# Altium integrated library Maxim Digital Potentiometers.IntLib: 1045 symbols (part 26 of 42)
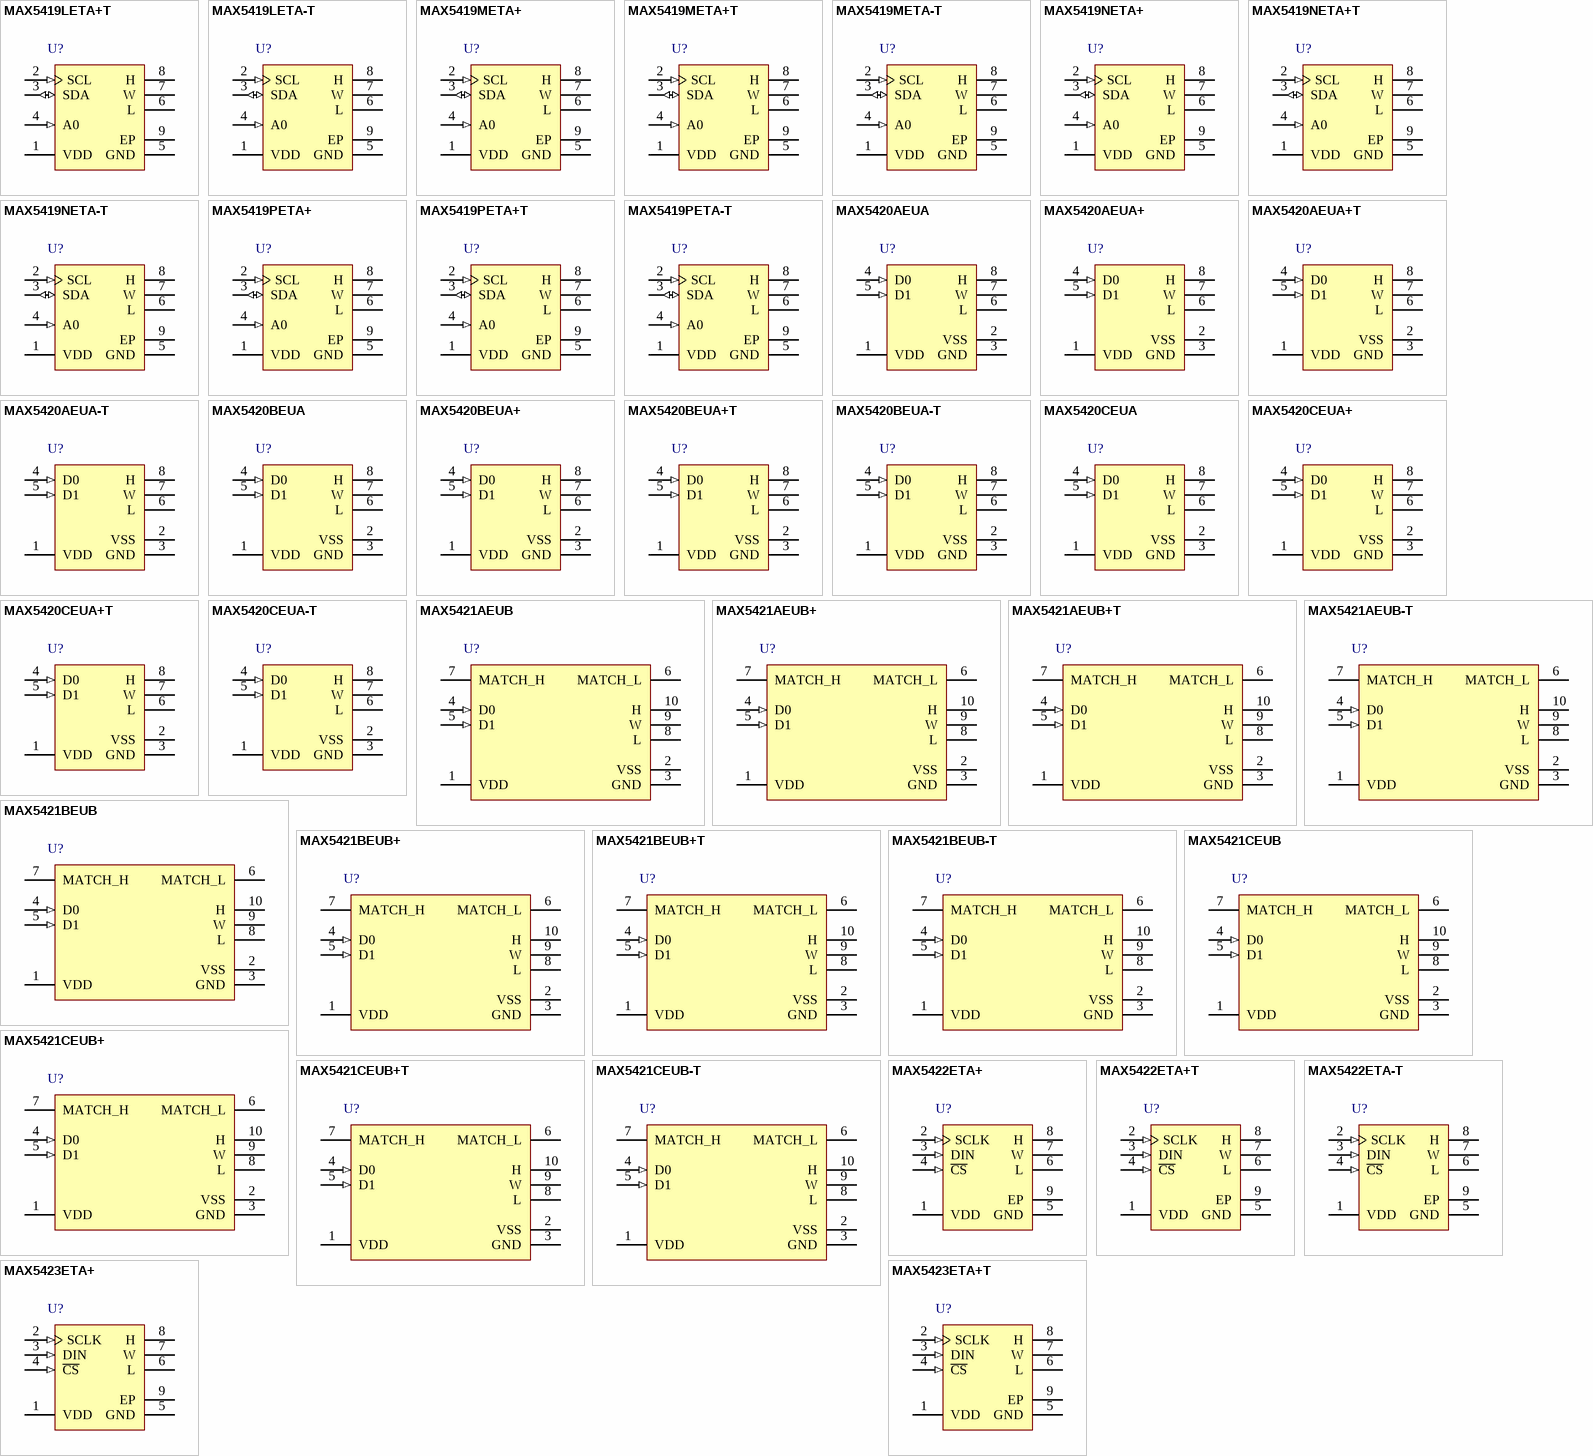
[diagram p54: symbols MAX5419LETA+T to MAX5423ETA+T]

## MAX5422ETA-T
designator U?
50kOhm, Digital Potentiometer with 3-Wire Serial SPI Control Interface, Non-Volatile, Linear Taper, 256 Steps, -40 to 85 degC, 8-pin TDFN-EP (T833-2), Tape and Reel; PartNumber: MAX5422ETA-T; DatasheetVersion: Rev. 0; PackageVersion: Rev. J, 08/2009; PackageReference: T833-2; PackageDescription: 8-Pin Plastic Very Very Thin Dual Flatpack No Leads, Exposed Pad, Body 3 x 3 mm, Pitch 0.65 mm; Supplier 1: Mouser; Supplier Part Number 1: N/A; Control Interface: 3-Wire Serial SPI; Features: EEPROM Wiper Memory; Mounting Technology: Surface Mount; Code_JEDEC: MO229; ComponentLink1Description: Manufacturer URL; ComponentLink1URL: http://www.maximintegrated.com/; ComponentLink2Description: Datasheet; ComponentLink2URL: http://datasheets.maximintegrated.com/en/ds/MAX5422-MAX5424.pdf; ComponentLink3Description: Package Specification; ComponentLink3URL: http://pdfserv.maximintegrated.com/package_dwgs/21-0137.PDF
footprint MAXM-T833-2_V (SON, 8-Leads, Body 3x3mm, Pitch 0.65mm, Thermal Pad 2.3x1.5mm, Recommended)
pins: 1 VDD (power) "Power-Supply Input. Bypass VDD with a 0.1uF capacitor from VDD to GND.", 2 SCLK (in) "Serial-Interface Clock Input", 3 DIN (in) "Serial-Interface Data Input", 4 ~{CS} (in) "Active-Low Digital-Input Chip Select", 5 GND (power) "Ground", 6 L "Low Terminal. The voltage at L can be greater than or less than the voltage at H. Current can flow into or out of L.", 7 W "Wiper Terminal", 8 H "High Terminal. The voltage at H can be greater than or less than the voltage at L. Current can flow into or out of H.", 9 EP "Exposed Pad. The exposed pad is not internally connected. Connect to GND or leave floating."

## MAX5423ETA+
designator U?
100kOhm, Digital Potentiometer with 3-Wire Serial SPI Control Interface, Non-Volatile, Linear Taper, 256 Steps, -40 to 85 degC, 8-pin TDFN-EP (T833+2), Pb-Free; PartNumber: MAX5423ETA+; DatasheetVersion: Rev. 0; PackageVersion: Rev. J, 08/2009; PackageReference: T833+2; PackageDescription: 8-Pin Plastic Very Very Thin Dual Flatpack No Leads, Exposed Pad (T833+2); Supplier 1: Farnell; Supplier Part Number 1: 1714982; Supplier 2: Mouser; Supplier Part Number 2: N/A; Control Interface: 3-Wire Serial SPI; Features: EEPROM Wiper Memory; Mounting Technology: Surface Mount; Code_JEDEC: MO229; ComponentLink1Description: Manufacturer URL; ComponentLink1URL: http://www.maximintegrated.com/; ComponentLink2Description: Datasheet; ComponentLink2URL: http://datasheets.maximintegrated.com/en/ds/MAX5422-MAX5424.pdf; ComponentLink3Description: Package Specification; ComponentLink3URL: http://pdfserv.maximintegrated.com/package_dwgs/21-0137.PDF
footprint MAXM-T833+2_V (SON, 8-Leads, Body 3x3 mm, Pitch 0.65mm, Thermal Pad 2.3x1.5mm)
pins: 1 VDD (power) "Power-Supply Input. Bypass VDD with a 0.1uF capacitor from VDD to GND.", 2 SCLK (in) "Serial-Interface Clock Input", 3 DIN (in) "Serial-Interface Data Input", 4 ~{CS} (in) "Active-Low Digital-Input Chip Select", 5 GND (power) "Ground", 6 L "Low Terminal. The voltage at L can be greater than or less than the voltage at H. Current can flow into or out of L.", 7 W "Wiper Terminal", 8 H "High Terminal. The voltage at H can be greater than or less than the voltage at L. Current can flow into or out of H.", 9 EP "Exposed Pad. The exposed pad is not internally connected. Connect to GND or leave floating."

## MAX5423ETA+T
designator U?
100kOhm, Digital Potentiometer with 3-Wire Serial SPI Control Interface, Non-Volatile, Linear Taper, 256 Steps, -40 to 85 degC, 8-pin TDFN-EP (T833+2), Pb-Free, Tape and Reel; PartNumber: MAX5423ETA+T; DatasheetVersion: Rev. 0; PackageVersion: Rev. J, 08/2009; PackageReference: T833+2; PackageDescription: 8-Pin Plastic Very Very Thin Dual Flatpack No Leads, Exposed Pad (T833+2); Supplier 1: Digi-Key; Supplier Part Number 1: MAX5423ETA+TTR-ND; Supplier 2: Digi-Key; Supplier Part Number 2: MAX5423ETA+TCT-ND; Supplier 3: Digi-Key; Supplier Part Number 3: MAX5423ETA+TDKR-ND; Supplier 4: Mouser; Supplier Part Number 4: 700-MAX5423ETAT; Control Interface: 3-Wire Serial SPI; Features: EEPROM Wiper Memory; Mounting Technology: Surface Mount; Code_JEDEC: MO229; ComponentLink1Description: Manufacturer URL; ComponentLink1URL: http://www.maximintegrated.com/; ComponentLink2Description: Datasheet; ComponentLink2URL: http://datasheets.maximintegrated.com/en/ds/MAX5422-MAX5424.pdf; ComponentLink3Description: Package Specification; ComponentLink3URL: http://pdfserv.maximintegrated.com/package_dwgs/21-0137.PDF
footprint MAXM-T833+2_V (SON, 8-Leads, Body 3x3 mm, Pitch 0.65mm, Thermal Pad 2.3x1.5mm)
pins: 1 VDD (power) "Power-Supply Input. Bypass VDD with a 0.1uF capacitor from VDD to GND.", 2 SCLK (in) "Serial-Interface Clock Input", 3 DIN (in) "Serial-Interface Data Input", 4 ~{CS} (in) "Active-Low Digital-Input Chip Select", 5 GND (power) "Ground", 6 L "Low Terminal. The voltage at L can be greater than or less than the voltage at H. Current can flow into or out of L.", 7 W "Wiper Terminal", 8 H "High Terminal. The voltage at H can be greater than or less than the voltage at L. Current can flow into or out of H.", 9 EP "Exposed Pad. The exposed pad is not internally connected. Connect to GND or leave floating."

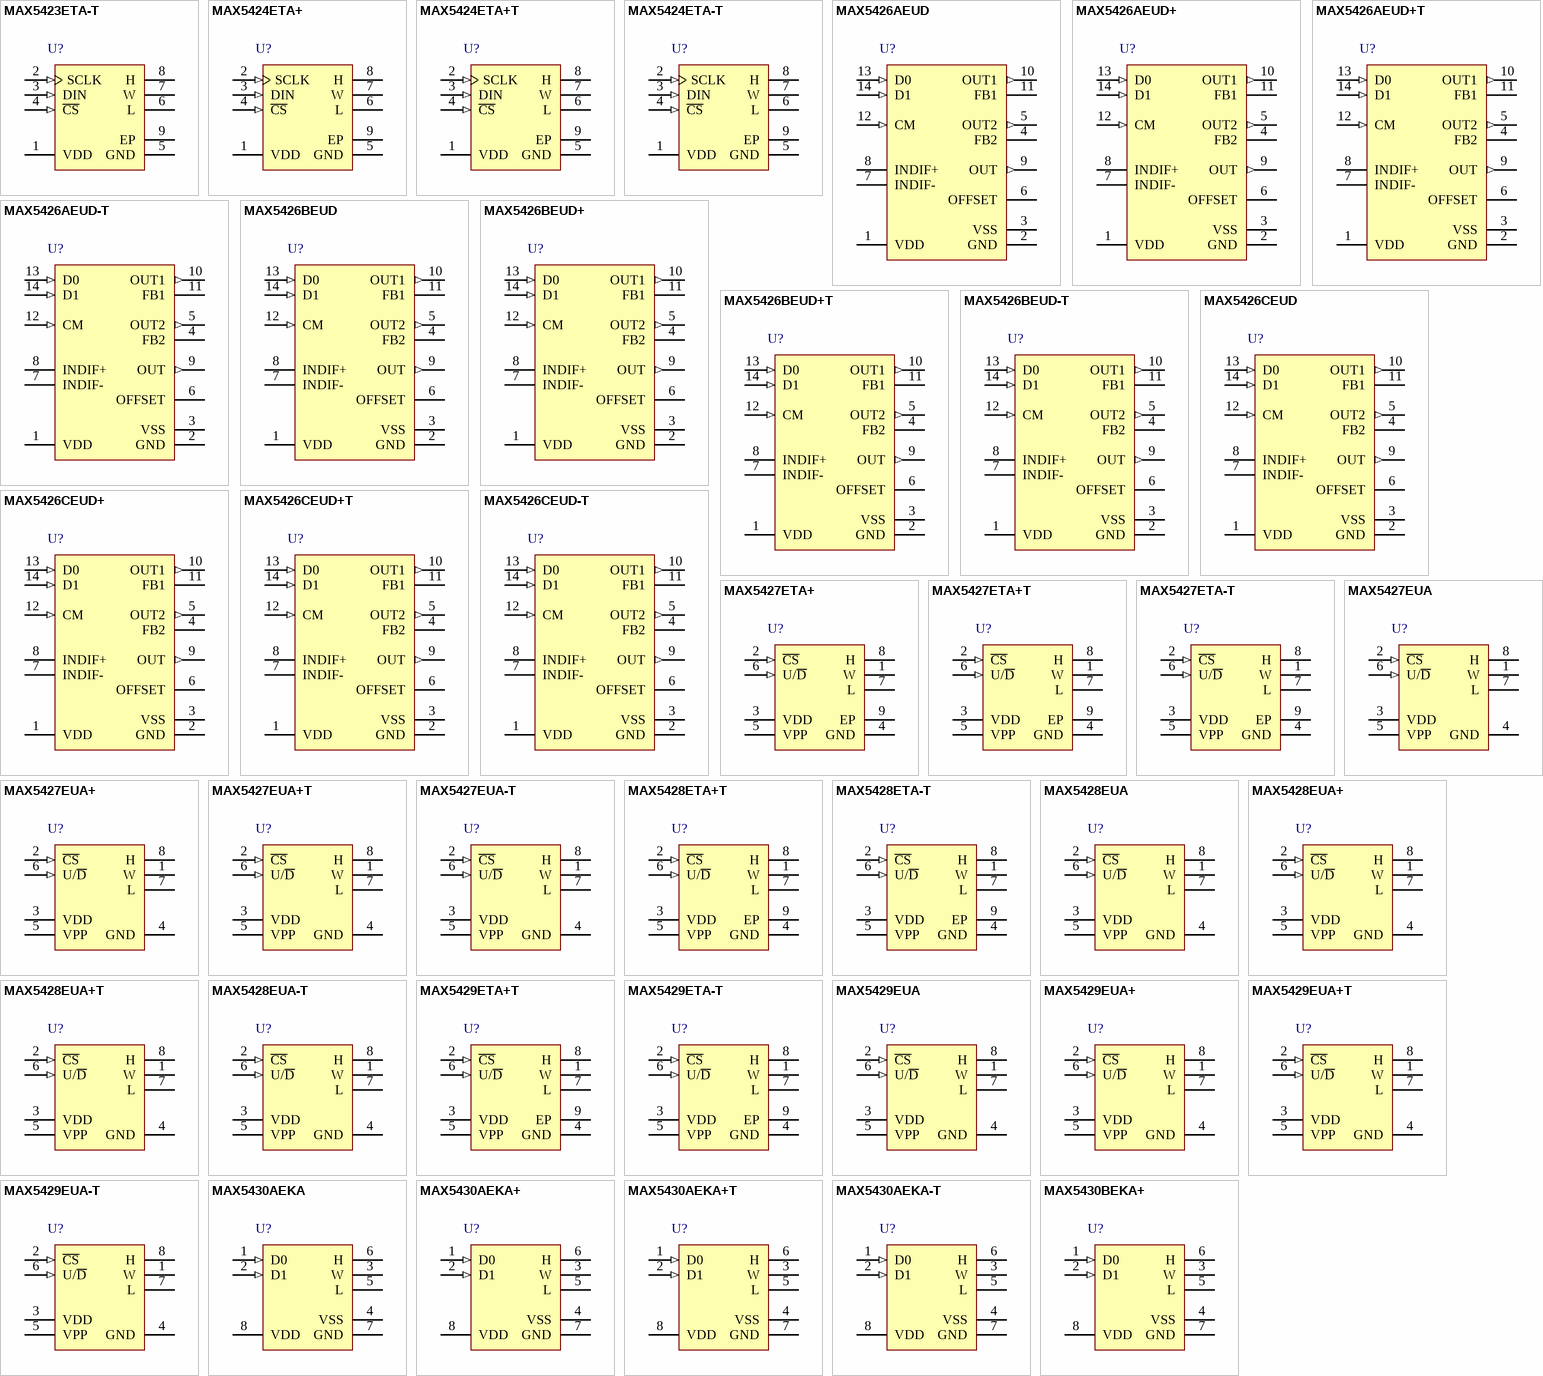
[diagram p18: symbols MAX5423ETA-T to MAX5430BEKA+]

## MAX5423ETA-T
designator U?
100kOhm, Digital Potentiometer with 3-Wire Serial SPI Control Interface, Non-Volatile, Linear Taper, 256 Steps, -40 to 85 degC, 8-pin TDFN-EP (T833-2), Tape and Reel; PartNumber: MAX5423ETA-T; DatasheetVersion: Rev. 0; PackageVersion: Rev. J, 08/2009; PackageReference: T833-2; PackageDescription: 8-Pin Plastic Very Very Thin Dual Flatpack No Leads, Exposed Pad, Body 3 x 3 mm, Pitch 0.65 mm; Supplier 1: Mouser; Supplier Part Number 1: N/A; Control Interface: 3-Wire Serial SPI; Features: EEPROM Wiper Memory; Mounting Technology: Surface Mount; Code_JEDEC: MO229; ComponentLink1Description: Manufacturer URL; ComponentLink1URL: http://www.maximintegrated.com/; ComponentLink2Description: Datasheet; ComponentLink2URL: http://datasheets.maximintegrated.com/en/ds/MAX5422-MAX5424.pdf; ComponentLink3Description: Package Specification; ComponentLink3URL: http://pdfserv.maximintegrated.com/package_dwgs/21-0137.PDF
footprint MAXM-T833-2_V (SON, 8-Leads, Body 3x3mm, Pitch 0.65mm, Thermal Pad 2.3x1.5mm, Recommended)
pins: 1 VDD (power) "Power-Supply Input. Bypass VDD with a 0.1uF capacitor from VDD to GND.", 2 SCLK (in) "Serial-Interface Clock Input", 3 DIN (in) "Serial-Interface Data Input", 4 ~{CS} (in) "Active-Low Digital-Input Chip Select", 5 GND (power) "Ground", 6 L "Low Terminal. The voltage at L can be greater than or less than the voltage at H. Current can flow into or out of L.", 7 W "Wiper Terminal", 8 H "High Terminal. The voltage at H can be greater than or less than the voltage at L. Current can flow into or out of H.", 9 EP "Exposed Pad. The exposed pad is not internally connected. Connect to GND or leave floating."

## MAX5424ETA+
designator U?
200kOhm, Digital Potentiometer with 3-Wire Serial SPI Control Interface, Non-Volatile, Linear Taper, 256 Steps, -40 to 85 degC, 8-pin TDFN-EP (T833+2), Pb-Free; PartNumber: MAX5424ETA+; DatasheetVersion: Rev. 0; PackageVersion: Rev. J, 08/2009; PackageReference: T833+2; PackageDescription: 8-Pin Plastic Very Very Thin Dual Flatpack No Leads, Exposed Pad (T833+2); Supplier 1: Mouser; Supplier Part Number 1: N/A; Control Interface: 3-Wire Serial SPI; Features: EEPROM Wiper Memory; Mounting Technology: Surface Mount; Code_JEDEC: MO229; ComponentLink1Description: Manufacturer URL; ComponentLink1URL: http://www.maximintegrated.com/; ComponentLink2Description: Datasheet; ComponentLink2URL: http://datasheets.maximintegrated.com/en/ds/MAX5422-MAX5424.pdf; ComponentLink3Description: Package Specification; ComponentLink3URL: http://pdfserv.maximintegrated.com/package_dwgs/21-0137.PDF
footprint MAXM-T833+2_V (SON, 8-Leads, Body 3x3 mm, Pitch 0.65mm, Thermal Pad 2.3x1.5mm)
pins: 1 VDD (power) "Power-Supply Input. Bypass VDD with a 0.1uF capacitor from VDD to GND.", 2 SCLK (in) "Serial-Interface Clock Input", 3 DIN (in) "Serial-Interface Data Input", 4 ~{CS} (in) "Active-Low Digital-Input Chip Select", 5 GND (power) "Ground", 6 L "Low Terminal. The voltage at L can be greater than or less than the voltage at H. Current can flow into or out of L.", 7 W "Wiper Terminal", 8 H "High Terminal. The voltage at H can be greater than or less than the voltage at L. Current can flow into or out of H.", 9 EP "Exposed Pad. The exposed pad is not internally connected. Connect to GND or leave floating."

## MAX5424ETA+T
designator U?
200kOhm, Digital Potentiometer with 3-Wire Serial SPI Control Interface, Non-Volatile, Linear Taper, 256 Steps, -40 to 85 degC, 8-pin TDFN-EP (T833+2), Pb-Free, Tape and Reel; PartNumber: MAX5424ETA+T; DatasheetVersion: Rev. 0; PackageVersion: Rev. J, 08/2009; PackageReference: T833+2; PackageDescription: 8-Pin Plastic Very Very Thin Dual Flatpack No Leads, Exposed Pad (T833+2); Supplier 1: Digi-Key; Supplier Part Number 1: MAX5424ETA+TTR-ND; Supplier 2: Digi-Key; Supplier Part Number 2: MAX5424ETA+TCT-ND; Supplier 3: Digi-Key; Supplier Part Number 3: MAX5424ETA+TDKR-ND; Supplier 4: Farnell; Supplier Part Number 4: 1714984; Supplier 5: Mouser; Supplier Part Number 5: 700-MAX5424ETAT; Control Interface: 3-Wire Serial SPI; Features: EEPROM Wiper Memory; Mounting Technology: Surface Mount; Code_JEDEC: MO229; ComponentLink1Description: Manufacturer URL; ComponentLink1URL: http://www.maximintegrated.com/; ComponentLink2Description: Datasheet; ComponentLink2URL: http://datasheets.maximintegrated.com/en/ds/MAX5422-MAX5424.pdf; ComponentLink3Description: Package Specification; ComponentLink3URL: http://pdfserv.maximintegrated.com/package_dwgs/21-0137.PDF
footprint MAXM-T833+2_V (SON, 8-Leads, Body 3x3 mm, Pitch 0.65mm, Thermal Pad 2.3x1.5mm)
pins: 1 VDD (power) "Power-Supply Input. Bypass VDD with a 0.1uF capacitor from VDD to GND.", 2 SCLK (in) "Serial-Interface Clock Input", 3 DIN (in) "Serial-Interface Data Input", 4 ~{CS} (in) "Active-Low Digital-Input Chip Select", 5 GND (power) "Ground", 6 L "Low Terminal. The voltage at L can be greater than or less than the voltage at H. Current can flow into or out of L.", 7 W "Wiper Terminal", 8 H "High Terminal. The voltage at H can be greater than or less than the voltage at L. Current can flow into or out of H.", 9 EP "Exposed Pad. The exposed pad is not internally connected. Connect to GND or leave floating."

## MAX5424ETA-T
designator U?
200kOhm, Digital Potentiometer with 3-Wire Serial SPI Control Interface, Non-Volatile, Linear Taper, 256 Steps, -40 to 85 degC, 8-pin TDFN-EP (T833-2), Tape and Reel; PartNumber: MAX5424ETA-T; DatasheetVersion: Rev. 0; PackageVersion: Rev. J, 08/2009; PackageReference: T833-2; PackageDescription: 8-Pin Plastic Very Very Thin Dual Flatpack No Leads, Exposed Pad, Body 3 x 3 mm, Pitch 0.65 mm; Supplier 1: Mouser; Supplier Part Number 1: N/A; Control Interface: 3-Wire Serial SPI; Features: EEPROM Wiper Memory; Mounting Technology: Surface Mount; Code_JEDEC: MO229; ComponentLink1Description: Manufacturer URL; ComponentLink1URL: http://www.maximintegrated.com/; ComponentLink2Description: Datasheet; ComponentLink2URL: http://datasheets.maximintegrated.com/en/ds/MAX5422-MAX5424.pdf; ComponentLink3Description: Package Specification; ComponentLink3URL: http://pdfserv.maximintegrated.com/package_dwgs/21-0137.PDF
footprint MAXM-T833-2_V (SON, 8-Leads, Body 3x3mm, Pitch 0.65mm, Thermal Pad 2.3x1.5mm, Recommended)
pins: 1 VDD (power) "Power-Supply Input. Bypass VDD with a 0.1uF capacitor from VDD to GND.", 2 SCLK (in) "Serial-Interface Clock Input", 3 DIN (in) "Serial-Interface Data Input", 4 ~{CS} (in) "Active-Low Digital-Input Chip Select", 5 GND (power) "Ground", 6 L "Low Terminal. The voltage at L can be greater than or less than the voltage at H. Current can flow into or out of L.", 7 W "Wiper Terminal", 8 H "High Terminal. The voltage at H can be greater than or less than the voltage at L. Current can flow into or out of H.", 9 EP "Exposed Pad. The exposed pad is not internally connected. Connect to GND or leave floating."

## MAX5426AEUD
designator U?
Digitally Programmable Resistor Network for Instrumentation Amplifiers with 2-Wire Parallel Control Interface, Volatile, 4 Steps, -40 to 85 degC, 14-pin TSSOP (U14-1); PartNumber: MAX5426AEUD; DatasheetVersion: Rev. 0; PackageVersion: Rev. L, 07/2010; PackageReference: U14-1; PackageDescription: 14-Pin Thin Shrink Small-Outline Package (U14-1), Body 5 x 4.4 mm, Pitch 0.65 mm; Supplier 1: Mouser; Supplier Part Number 1: N/A; Applications: Precision Voltage Divider; Control Interface: 2-Wire Parallel; Mounting Technology: Surface Mount; Code_JEDEC: MO-153; ComponentLink1Description: Manufacturer URL; ComponentLink1URL: http://www.maximintegrated.com/; ComponentLink2Description: Datasheet; ComponentLink2URL: http://datasheets.maximintegrated.com/en/ds/MAX5426.pdf; ComponentLink3Description: Package Specification; ComponentLink3URL: http://pdfserv.maximintegrated.com/package_dwgs/21-0066.PDF
footprint MAXM-U14-1_N (SOP, 14-Leads, Body 5x4.4mm, Pitch 0.65mm, IPC Medium Density)
footprint MAXM-U14-1_L (SOP, 14-Leads, Body 5x4.4mm, Pitch 0.65mm, IPC High Density)
footprint MAXM-U14-1_M (SOP, 14-Leads, Body 5x4.4mm, Pitch 0.65mm, IPC Low Density)
pins: 1 VDD (power) "Positive Power Supply. Bypass VDD to GND with a 0.1µF capacitor.", 2 GND (power) "Ground", 3 VSS (power) "Negative Power Supply. Bypass VSS to GND with a 0.1µF capacitor.", 4 FB2 "First Stage Positive Input Terminal Resistor. Connect to the inverting terminal of the second input buffer.", 5 OUT2 (out) "First Stage Positive Output Terminal Resistor. Connect to the output terminal of the second input buffer.", 6 OFFSET "Second Stage Offset Terminal. Connect to a DC voltage to offset the output of the differential amplifier.", 7 INDIF- "Second Stage Negative Input Terminal Resistor. Connect to the inverting input terminal of the differential op amp.", 8 INDIF+ "Second Stage Positive Input Terminal Resistor. Connect to the noninverting input terminal of the differential op amp.", 9 OUT (out) "Second Stage Output Terminal, Final Output Termina", 10 OUT1 (out) "First Stage Negative Output Terminal of Resistor. Connect to the output terminal of the first input buffer.", 11 FB1 "First Stage Negative Input Terminal of Resistor. Connect to the inverting input terminal of the first input buffer.", 12 CM (in) "Common-Mode Voltage. CM is the input common-mode voltage of the instrumentation amplifier. Typically varies +/-1% of input common-mode voltage.", 13 D0 (in) "Digital Inputs", 14 D1 (in) "Digital Inputs"

## MAX5426AEUD+
designator U?
Digitally Programmable Resistor Network for Instrumentation Amplifiers with 2-Wire Parallel Control Interface, Volatile, 4 Steps, -40 to 85 degC, 14-pin TSSOP (U14+1), Pb-Free; PartNumber: MAX5426AEUD+; DatasheetVersion: Rev. 0; PackageVersion: Rev. L, 07/2010; PackageReference: U14+1; PackageDescription: 14-Pin Thin Shrink Small-Outline Package (U14+1), Body 5 x 4.4 mm, Pitch 0.65 mm; Supplier 1: Digi-Key; Supplier Part Number 1: MAX5426AEUD+-ND; Supplier 2: Mouser; Supplier Part Number 2: 700-MAX5426AEUD; Applications: Precision Voltage Divider; Control Interface: 2-Wire Parallel; Mounting Technology: Surface Mount; Code_JEDEC: MO-153; ComponentLink1Description: Manufacturer URL; ComponentLink1URL: http://www.maximintegrated.com/; ComponentLink2Description: Datasheet; ComponentLink2URL: http://datasheets.maximintegrated.com/en/ds/MAX5426.pdf; ComponentLink3Description: Package Specification; ComponentLink3URL: http://pdfserv.maximintegrated.com/package_dwgs/21-0066.PDF
footprint MAXM-U14+1_N (SOP, 14-Leads, Body 5x4.4mm, Pitch 0.65mm, IPC Medium Density)
footprint MAXM-U14+1_L (SOP, 14-Leads, Body 5x4.4mm, Pitch 0.65mm, IPC High Density)
footprint MAXM-U14+1_M (SOP, 14-Leads, Body 5x4.4mm, Pitch 0.65mm, IPC Low Density)
pins: 1 VDD (power) "Positive Power Supply. Bypass VDD to GND with a 0.1µF capacitor.", 2 GND (power) "Ground", 3 VSS (power) "Negative Power Supply. Bypass VSS to GND with a 0.1µF capacitor.", 4 FB2 "First Stage Positive Input Terminal Resistor. Connect to the inverting terminal of the second input buffer.", 5 OUT2 (out) "First Stage Positive Output Terminal Resistor. Connect to the output terminal of the second input buffer.", 6 OFFSET "Second Stage Offset Terminal. Connect to a DC voltage to offset the output of the differential amplifier.", 7 INDIF- "Second Stage Negative Input Terminal Resistor. Connect to the inverting input terminal of the differential op amp.", 8 INDIF+ "Second Stage Positive Input Terminal Resistor. Connect to the noninverting input terminal of the differential op amp.", 9 OUT (out) "Second Stage Output Terminal, Final Output Termina", 10 OUT1 (out) "First Stage Negative Output Terminal of Resistor. Connect to the output terminal of the first input buffer.", 11 FB1 "First Stage Negative Input Terminal of Resistor. Connect to the inverting input terminal of the first input buffer.", 12 CM (in) "Common-Mode Voltage. CM is the input common-mode voltage of the instrumentation amplifier. Typically varies +/-1% of input common-mode voltage.", 13 D0 (in) "Digital Inputs", 14 D1 (in) "Digital Inputs"

## MAX5426AEUD+T
designator U?
Digitally Programmable Resistor Network for Instrumentation Amplifiers with 2-Wire Parallel Control Interface, Volatile, 4 Steps, -40 to 85 degC, 14-pin TSSOP (U14+1), Pb-Free, Tape and Reel; PartNumber: MAX5426AEUD+T; DatasheetVersion: Rev. 0; PackageVersion: Rev. L, 07/2010; PackageReference: U14+1; PackageDescription: 14-Pin Thin Shrink Small-Outline Package (U14+1), Body 5 x 4.4 mm, Pitch 0.65 mm; Supplier 1: Digi-Key; Supplier Part Number 1: MAX5426AEUD+T-ND; Supplier 2: Mouser; Supplier Part Number 2: 700-MAX5426AEUDT; Applications: Precision Voltage Divider; Control Interface: 2-Wire Parallel; Mounting Technology: Surface Mount; Code_JEDEC: MO-153; ComponentLink1Description: Manufacturer URL; ComponentLink1URL: http://www.maximintegrated.com/; ComponentLink2Description: Datasheet; ComponentLink2URL: http://datasheets.maximintegrated.com/en/ds/MAX5426.pdf; ComponentLink3Description: Package Specification; ComponentLink3URL: http://pdfserv.maximintegrated.com/package_dwgs/21-0066.PDF
footprint MAXM-U14+1_N (SOP, 14-Leads, Body 5x4.4mm, Pitch 0.65mm, IPC Medium Density)
footprint MAXM-U14+1_L (SOP, 14-Leads, Body 5x4.4mm, Pitch 0.65mm, IPC High Density)
footprint MAXM-U14+1_M (SOP, 14-Leads, Body 5x4.4mm, Pitch 0.65mm, IPC Low Density)
pins: 1 VDD (power) "Positive Power Supply. Bypass VDD to GND with a 0.1µF capacitor.", 2 GND (power) "Ground", 3 VSS (power) "Negative Power Supply. Bypass VSS to GND with a 0.1µF capacitor.", 4 FB2 "First Stage Positive Input Terminal Resistor. Connect to the inverting terminal of the second input buffer.", 5 OUT2 (out) "First Stage Positive Output Terminal Resistor. Connect to the output terminal of the second input buffer.", 6 OFFSET "Second Stage Offset Terminal. Connect to a DC voltage to offset the output of the differential amplifier.", 7 INDIF- "Second Stage Negative Input Terminal Resistor. Connect to the inverting input terminal of the differential op amp.", 8 INDIF+ "Second Stage Positive Input Terminal Resistor. Connect to the noninverting input terminal of the differential op amp.", 9 OUT (out) "Second Stage Output Terminal, Final Output Termina", 10 OUT1 (out) "First Stage Negative Output Terminal of Resistor. Connect to the output terminal of the first input buffer.", 11 FB1 "First Stage Negative Input Terminal of Resistor. Connect to the inverting input terminal of the first input buffer.", 12 CM (in) "Common-Mode Voltage. CM is the input common-mode voltage of the instrumentation amplifier. Typically varies +/-1% of input common-mode voltage.", 13 D0 (in) "Digital Inputs", 14 D1 (in) "Digital Inputs"

## MAX5426AEUD-T
designator U?
Digitally Programmable Resistor Network for Instrumentation Amplifiers with 2-Wire Parallel Control Interface, Volatile, 4 Steps, -40 to 85 degC, 14-pin TSSOP (U14-1), Tape and Reel; PartNumber: MAX5426AEUD-T; DatasheetVersion: Rev. 0; PackageVersion: Rev. L, 07/2010; PackageReference: U14-1; PackageDescription: 14-Pin Thin Shrink Small-Outline Package (U14-1), Body 5 x 4.4 mm, Pitch 0.65 mm; Supplier 1: Mouser; Supplier Part Number 1: N/A; Applications: Precision Voltage Divider; Control Interface: 2-Wire Parallel; Mounting Technology: Surface Mount; Code_JEDEC: MO-153; ComponentLink1Description: Manufacturer URL; ComponentLink1URL: http://www.maximintegrated.com/; ComponentLink2Description: Datasheet; ComponentLink2URL: http://datasheets.maximintegrated.com/en/ds/MAX5426.pdf; ComponentLink3Description: Package Specification; ComponentLink3URL: http://pdfserv.maximintegrated.com/package_dwgs/21-0066.PDF
footprint MAXM-U14-1_N (SOP, 14-Leads, Body 5x4.4mm, Pitch 0.65mm, IPC Medium Density)
footprint MAXM-U14-1_L (SOP, 14-Leads, Body 5x4.4mm, Pitch 0.65mm, IPC High Density)
footprint MAXM-U14-1_M (SOP, 14-Leads, Body 5x4.4mm, Pitch 0.65mm, IPC Low Density)
pins: 1 VDD (power) "Positive Power Supply. Bypass VDD to GND with a 0.1µF capacitor.", 2 GND (power) "Ground", 3 VSS (power) "Negative Power Supply. Bypass VSS to GND with a 0.1µF capacitor.", 4 FB2 "First Stage Positive Input Terminal Resistor. Connect to the inverting terminal of the second input buffer.", 5 OUT2 (out) "First Stage Positive Output Terminal Resistor. Connect to the output terminal of the second input buffer.", 6 OFFSET "Second Stage Offset Terminal. Connect to a DC voltage to offset the output of the differential amplifier.", 7 INDIF- "Second Stage Negative Input Terminal Resistor. Connect to the inverting input terminal of the differential op amp.", 8 INDIF+ "Second Stage Positive Input Terminal Resistor. Connect to the noninverting input terminal of the differential op amp.", 9 OUT (out) "Second Stage Output Terminal, Final Output Termina", 10 OUT1 (out) "First Stage Negative Output Terminal of Resistor. Connect to the output terminal of the first input buffer.", 11 FB1 "First Stage Negative Input Terminal of Resistor. Connect to the inverting input terminal of the first input buffer.", 12 CM (in) "Common-Mode Voltage. CM is the input common-mode voltage of the instrumentation amplifier. Typically varies +/-1% of input common-mode voltage.", 13 D0 (in) "Digital Inputs", 14 D1 (in) "Digital Inputs"

## MAX5426BEUD
designator U?
Digitally Programmable Resistor Network for Instrumentation Amplifiers with 2-Wire Parallel Control Interface, Volatile, 4 Steps, -40 to 85 degC, 14-pin TSSOP (U14-1); PartNumber: MAX5426BEUD; DatasheetVersion: Rev. 0; PackageVersion: Rev. L, 07/2010; PackageReference: U14-1; PackageDescription: 14-Pin Thin Shrink Small-Outline Package (U14-1), Body 5 x 4.4 mm, Pitch 0.65 mm; Supplier 1: Mouser; Supplier Part Number 1: N/A; Applications: Precision Voltage Divider; Control Interface: 2-Wire Parallel; Mounting Technology: Surface Mount; Code_JEDEC: MO-153; ComponentLink1Description: Manufacturer URL; ComponentLink1URL: http://www.maximintegrated.com/; ComponentLink2Description: Datasheet; ComponentLink2URL: http://datasheets.maximintegrated.com/en/ds/MAX5426.pdf; ComponentLink3Description: Package Specification; ComponentLink3URL: http://pdfserv.maximintegrated.com/package_dwgs/21-0066.PDF
footprint MAXM-U14-1_N (SOP, 14-Leads, Body 5x4.4mm, Pitch 0.65mm, IPC Medium Density)
footprint MAXM-U14-1_L (SOP, 14-Leads, Body 5x4.4mm, Pitch 0.65mm, IPC High Density)
footprint MAXM-U14-1_M (SOP, 14-Leads, Body 5x4.4mm, Pitch 0.65mm, IPC Low Density)
pins: 1 VDD (power) "Positive Power Supply. Bypass VDD to GND with a 0.1µF capacitor.", 2 GND (power) "Ground", 3 VSS (power) "Negative Power Supply. Bypass VSS to GND with a 0.1µF capacitor.", 4 FB2 "First Stage Positive Input Terminal Resistor. Connect to the inverting terminal of the second input buffer.", 5 OUT2 (out) "First Stage Positive Output Terminal Resistor. Connect to the output terminal of the second input buffer.", 6 OFFSET "Second Stage Offset Terminal. Connect to a DC voltage to offset the output of the differential amplifier.", 7 INDIF- "Second Stage Negative Input Terminal Resistor. Connect to the inverting input terminal of the differential op amp.", 8 INDIF+ "Second Stage Positive Input Terminal Resistor. Connect to the noninverting input terminal of the differential op amp.", 9 OUT (out) "Second Stage Output Terminal, Final Output Termina", 10 OUT1 (out) "First Stage Negative Output Terminal of Resistor. Connect to the output terminal of the first input buffer.", 11 FB1 "First Stage Negative Input Terminal of Resistor. Connect to the inverting input terminal of the first input buffer.", 12 CM (in) "Common-Mode Voltage. CM is the input common-mode voltage of the instrumentation amplifier. Typically varies +/-1% of input common-mode voltage.", 13 D0 (in) "Digital Inputs", 14 D1 (in) "Digital Inputs"

## MAX5426BEUD+
designator U?
Digitally Programmable Resistor Network for Instrumentation Amplifiers with 2-Wire Parallel Control Interface, Volatile, 4 Steps, -40 to 85 degC, 14-pin TSSOP (U14+1), Pb-Free; PartNumber: MAX5426BEUD+; DatasheetVersion: Rev. 0; PackageVersion: Rev. L, 07/2010; PackageReference: U14+1; PackageDescription: 14-Pin Thin Shrink Small-Outline Package (U14+1), Body 5 x 4.4 mm, Pitch 0.65 mm; Supplier 1: Digi-Key; Supplier Part Number 1: MAX5426BEUD+-ND; Supplier 2: Mouser; Supplier Part Number 2: 700-MAX5426BEUD; Applications: Precision Voltage Divider; Control Interface: 2-Wire Parallel; Mounting Technology: Surface Mount; Code_JEDEC: MO-153; ComponentLink1Description: Manufacturer URL; ComponentLink1URL: http://www.maximintegrated.com/; ComponentLink2Description: Datasheet; ComponentLink2URL: http://datasheets.maximintegrated.com/en/ds/MAX5426.pdf; ComponentLink3Description: Package Specification; ComponentLink3URL: http://pdfserv.maximintegrated.com/package_dwgs/21-0066.PDF
footprint MAXM-U14+1_N (SOP, 14-Leads, Body 5x4.4mm, Pitch 0.65mm, IPC Medium Density)
footprint MAXM-U14+1_L (SOP, 14-Leads, Body 5x4.4mm, Pitch 0.65mm, IPC High Density)
footprint MAXM-U14+1_M (SOP, 14-Leads, Body 5x4.4mm, Pitch 0.65mm, IPC Low Density)
pins: 1 VDD (power) "Positive Power Supply. Bypass VDD to GND with a 0.1µF capacitor.", 2 GND (power) "Ground", 3 VSS (power) "Negative Power Supply. Bypass VSS to GND with a 0.1µF capacitor.", 4 FB2 "First Stage Positive Input Terminal Resistor. Connect to the inverting terminal of the second input buffer.", 5 OUT2 (out) "First Stage Positive Output Terminal Resistor. Connect to the output terminal of the second input buffer.", 6 OFFSET "Second Stage Offset Terminal. Connect to a DC voltage to offset the output of the differential amplifier.", 7 INDIF- "Second Stage Negative Input Terminal Resistor. Connect to the inverting input terminal of the differential op amp.", 8 INDIF+ "Second Stage Positive Input Terminal Resistor. Connect to the noninverting input terminal of the differential op amp.", 9 OUT (out) "Second Stage Output Terminal, Final Output Termina", 10 OUT1 (out) "First Stage Negative Output Terminal of Resistor. Connect to the output terminal of the first input buffer.", 11 FB1 "First Stage Negative Input Terminal of Resistor. Connect to the inverting input terminal of the first input buffer.", 12 CM (in) "Common-Mode Voltage. CM is the input common-mode voltage of the instrumentation amplifier. Typically varies +/-1% of input common-mode voltage.", 13 D0 (in) "Digital Inputs", 14 D1 (in) "Digital Inputs"

## MAX5426BEUD+T
designator U?
Digitally Programmable Resistor Network for Instrumentation Amplifiers with 2-Wire Parallel Control Interface, Volatile, 4 Steps, -40 to 85 degC, 14-pin TSSOP (U14+1), Pb-Free, Tape and Reel; PartNumber: MAX5426BEUD+T; DatasheetVersion: Rev. 0; PackageVersion: Rev. L, 07/2010; PackageReference: U14+1; PackageDescription: 14-Pin Thin Shrink Small-Outline Package (U14+1), Body 5 x 4.4 mm, Pitch 0.65 mm; Supplier 1: Digi-Key; Supplier Part Number 1: MAX5426BEUD+T-ND; Supplier 2: Mouser; Supplier Part Number 2: 700-MAX5426BEUDT; Applications: Precision Voltage Divider; Control Interface: 2-Wire Parallel; Mounting Technology: Surface Mount; Code_JEDEC: MO-153; ComponentLink1Description: Manufacturer URL; ComponentLink1URL: http://www.maximintegrated.com/; ComponentLink2Description: Datasheet; ComponentLink2URL: http://datasheets.maximintegrated.com/en/ds/MAX5426.pdf; ComponentLink3Description: Package Specification; ComponentLink3URL: http://pdfserv.maximintegrated.com/package_dwgs/21-0066.PDF
footprint MAXM-U14+1_N (SOP, 14-Leads, Body 5x4.4mm, Pitch 0.65mm, IPC Medium Density)
footprint MAXM-U14+1_L (SOP, 14-Leads, Body 5x4.4mm, Pitch 0.65mm, IPC High Density)
footprint MAXM-U14+1_M (SOP, 14-Leads, Body 5x4.4mm, Pitch 0.65mm, IPC Low Density)
pins: 1 VDD (power) "Positive Power Supply. Bypass VDD to GND with a 0.1µF capacitor.", 2 GND (power) "Ground", 3 VSS (power) "Negative Power Supply. Bypass VSS to GND with a 0.1µF capacitor.", 4 FB2 "First Stage Positive Input Terminal Resistor. Connect to the inverting terminal of the second input buffer.", 5 OUT2 (out) "First Stage Positive Output Terminal Resistor. Connect to the output terminal of the second input buffer.", 6 OFFSET "Second Stage Offset Terminal. Connect to a DC voltage to offset the output of the differential amplifier.", 7 INDIF- "Second Stage Negative Input Terminal Resistor. Connect to the inverting input terminal of the differential op amp.", 8 INDIF+ "Second Stage Positive Input Terminal Resistor. Connect to the noninverting input terminal of the differential op amp.", 9 OUT (out) "Second Stage Output Terminal, Final Output Termina", 10 OUT1 (out) "First Stage Negative Output Terminal of Resistor. Connect to the output terminal of the first input buffer.", 11 FB1 "First Stage Negative Input Terminal of Resistor. Connect to the inverting input terminal of the first input buffer.", 12 CM (in) "Common-Mode Voltage. CM is the input common-mode voltage of the instrumentation amplifier. Typically varies +/-1% of input common-mode voltage.", 13 D0 (in) "Digital Inputs", 14 D1 (in) "Digital Inputs"

## MAX5426BEUD-T
designator U?
Digitally Programmable Resistor Network for Instrumentation Amplifiers with 2-Wire Parallel Control Interface, Volatile, 4 Steps, -40 to 85 degC, 14-pin TSSOP (U14-1), Tape and Reel; PartNumber: MAX5426BEUD-T; DatasheetVersion: Rev. 0; PackageVersion: Rev. L, 07/2010; PackageReference: U14-1; PackageDescription: 14-Pin Thin Shrink Small-Outline Package (U14-1), Body 5 x 4.4 mm, Pitch 0.65 mm; Supplier 1: Mouser; Supplier Part Number 1: N/A; Applications: Precision Voltage Divider; Control Interface: 2-Wire Parallel; Mounting Technology: Surface Mount; Code_JEDEC: MO-153; ComponentLink1Description: Manufacturer URL; ComponentLink1URL: http://www.maximintegrated.com/; ComponentLink2Description: Datasheet; ComponentLink2URL: http://datasheets.maximintegrated.com/en/ds/MAX5426.pdf; ComponentLink3Description: Package Specification; ComponentLink3URL: http://pdfserv.maximintegrated.com/package_dwgs/21-0066.PDF
footprint MAXM-U14-1_N (SOP, 14-Leads, Body 5x4.4mm, Pitch 0.65mm, IPC Medium Density)
footprint MAXM-U14-1_L (SOP, 14-Leads, Body 5x4.4mm, Pitch 0.65mm, IPC High Density)
footprint MAXM-U14-1_M (SOP, 14-Leads, Body 5x4.4mm, Pitch 0.65mm, IPC Low Density)
pins: 1 VDD (power) "Positive Power Supply. Bypass VDD to GND with a 0.1µF capacitor.", 2 GND (power) "Ground", 3 VSS (power) "Negative Power Supply. Bypass VSS to GND with a 0.1µF capacitor.", 4 FB2 "First Stage Positive Input Terminal Resistor. Connect to the inverting terminal of the second input buffer.", 5 OUT2 (out) "First Stage Positive Output Terminal Resistor. Connect to the output terminal of the second input buffer.", 6 OFFSET "Second Stage Offset Terminal. Connect to a DC voltage to offset the output of the differential amplifier.", 7 INDIF- "Second Stage Negative Input Terminal Resistor. Connect to the inverting input terminal of the differential op amp.", 8 INDIF+ "Second Stage Positive Input Terminal Resistor. Connect to the noninverting input terminal of the differential op amp.", 9 OUT (out) "Second Stage Output Terminal, Final Output Termina", 10 OUT1 (out) "First Stage Negative Output Terminal of Resistor. Connect to the output terminal of the first input buffer.", 11 FB1 "First Stage Negative Input Terminal of Resistor. Connect to the inverting input terminal of the first input buffer.", 12 CM (in) "Common-Mode Voltage. CM is the input common-mode voltage of the instrumentation amplifier. Typically varies +/-1% of input common-mode voltage.", 13 D0 (in) "Digital Inputs", 14 D1 (in) "Digital Inputs"

## MAX5426CEUD
designator U?
Digitally Programmable Resistor Network for Instrumentation Amplifiers with 2-Wire Parallel Control Interface, Volatile, 4 Steps, -40 to 85 degC, 14-pin TSSOP (U14-1); PartNumber: MAX5426CEUD; DatasheetVersion: Rev. 0; PackageVersion: Rev. L, 07/2010; PackageReference: U14-1; PackageDescription: 14-Pin Thin Shrink Small-Outline Package (U14-1), Body 5 x 4.4 mm, Pitch 0.65 mm; Supplier 1: Mouser; Supplier Part Number 1: N/A; Applications: Precision Voltage Divider; Control Interface: 2-Wire Parallel; Mounting Technology: Surface Mount; Code_JEDEC: MO-153; ComponentLink1Description: Manufacturer URL; ComponentLink1URL: http://www.maximintegrated.com/; ComponentLink2Description: Datasheet; ComponentLink2URL: http://datasheets.maximintegrated.com/en/ds/MAX5426.pdf; ComponentLink3Description: Package Specification; ComponentLink3URL: http://pdfserv.maximintegrated.com/package_dwgs/21-0066.PDF
footprint MAXM-U14-1_N (SOP, 14-Leads, Body 5x4.4mm, Pitch 0.65mm, IPC Medium Density)
footprint MAXM-U14-1_L (SOP, 14-Leads, Body 5x4.4mm, Pitch 0.65mm, IPC High Density)
footprint MAXM-U14-1_M (SOP, 14-Leads, Body 5x4.4mm, Pitch 0.65mm, IPC Low Density)
pins: 1 VDD (power) "Positive Power Supply. Bypass VDD to GND with a 0.1µF capacitor.", 2 GND (power) "Ground", 3 VSS (power) "Negative Power Supply. Bypass VSS to GND with a 0.1µF capacitor.", 4 FB2 "First Stage Positive Input Terminal Resistor. Connect to the inverting terminal of the second input buffer.", 5 OUT2 (out) "First Stage Positive Output Terminal Resistor. Connect to the output terminal of the second input buffer.", 6 OFFSET "Second Stage Offset Terminal. Connect to a DC voltage to offset the output of the differential amplifier.", 7 INDIF- "Second Stage Negative Input Terminal Resistor. Connect to the inverting input terminal of the differential op amp.", 8 INDIF+ "Second Stage Positive Input Terminal Resistor. Connect to the noninverting input terminal of the differential op amp.", 9 OUT (out) "Second Stage Output Terminal, Final Output Termina", 10 OUT1 (out) "First Stage Negative Output Terminal of Resistor. Connect to the output terminal of the first input buffer.", 11 FB1 "First Stage Negative Input Terminal of Resistor. Connect to the inverting input terminal of the first input buffer.", 12 CM (in) "Common-Mode Voltage. CM is the input common-mode voltage of the instrumentation amplifier. Typically varies +/-1% of input common-mode voltage.", 13 D0 (in) "Digital Inputs", 14 D1 (in) "Digital Inputs"

## MAX5426CEUD+
designator U?
Digitally Programmable Resistor Network for Instrumentation Amplifiers with 2-Wire Parallel Control Interface, Volatile, 4 Steps, -40 to 85 degC, 14-pin TSSOP (U14+1), Pb-Free; PartNumber: MAX5426CEUD+; DatasheetVersion: Rev. 0; PackageVersion: Rev. L, 07/2010; PackageReference: U14+1; PackageDescription: 14-Pin Thin Shrink Small-Outline Package (U14+1), Body 5 x 4.4 mm, Pitch 0.65 mm; Supplier 1: Digi-Key; Supplier Part Number 1: MAX5426CEUD+-ND; Supplier 2: Mouser; Supplier Part Number 2: 700-MAX5426CEUD; Applications: Precision Voltage Divider; Control Interface: 2-Wire Parallel; Mounting Technology: Surface Mount; Code_JEDEC: MO-153; ComponentLink1Description: Manufacturer URL; ComponentLink1URL: http://www.maximintegrated.com/; ComponentLink2Description: Datasheet; ComponentLink2URL: http://datasheets.maximintegrated.com/en/ds/MAX5426.pdf; ComponentLink3Description: Package Specification; ComponentLink3URL: http://pdfserv.maximintegrated.com/package_dwgs/21-0066.PDF
footprint MAXM-U14+1_N (SOP, 14-Leads, Body 5x4.4mm, Pitch 0.65mm, IPC Medium Density)
footprint MAXM-U14+1_L (SOP, 14-Leads, Body 5x4.4mm, Pitch 0.65mm, IPC High Density)
footprint MAXM-U14+1_M (SOP, 14-Leads, Body 5x4.4mm, Pitch 0.65mm, IPC Low Density)
pins: 1 VDD (power) "Positive Power Supply. Bypass VDD to GND with a 0.1µF capacitor.", 2 GND (power) "Ground", 3 VSS (power) "Negative Power Supply. Bypass VSS to GND with a 0.1µF capacitor.", 4 FB2 "First Stage Positive Input Terminal Resistor. Connect to the inverting terminal of the second input buffer.", 5 OUT2 (out) "First Stage Positive Output Terminal Resistor. Connect to the output terminal of the second input buffer.", 6 OFFSET "Second Stage Offset Terminal. Connect to a DC voltage to offset the output of the differential amplifier.", 7 INDIF- "Second Stage Negative Input Terminal Resistor. Connect to the inverting input terminal of the differential op amp.", 8 INDIF+ "Second Stage Positive Input Terminal Resistor. Connect to the noninverting input terminal of the differential op amp.", 9 OUT (out) "Second Stage Output Terminal, Final Output Termina", 10 OUT1 (out) "First Stage Negative Output Terminal of Resistor. Connect to the output terminal of the first input buffer.", 11 FB1 "First Stage Negative Input Terminal of Resistor. Connect to the inverting input terminal of the first input buffer.", 12 CM (in) "Common-Mode Voltage. CM is the input common-mode voltage of the instrumentation amplifier. Typically varies +/-1% of input common-mode voltage.", 13 D0 (in) "Digital Inputs", 14 D1 (in) "Digital Inputs"

## MAX5426CEUD+T
designator U?
Digitally Programmable Resistor Network for Instrumentation Amplifiers with 2-Wire Parallel Control Interface, Volatile, 4 Steps, -40 to 85 degC, 14-pin TSSOP (U14+1), Pb-Free, Tape and Reel; PartNumber: MAX5426CEUD+T; DatasheetVersion: Rev. 0; PackageVersion: Rev. L, 07/2010; PackageReference: U14+1; PackageDescription: 14-Pin Thin Shrink Small-Outline Package (U14+1), Body 5 x 4.4 mm, Pitch 0.65 mm; Supplier 1: Digi-Key; Supplier Part Number 1: MAX5426CEUD+T-ND; Supplier 2: Mouser; Supplier Part Number 2: 700-MAX5426CEUDT; Applications: Precision Voltage Divider; Control Interface: 2-Wire Parallel; Mounting Technology: Surface Mount; Code_JEDEC: MO-153; ComponentLink1Description: Manufacturer URL; ComponentLink1URL: http://www.maximintegrated.com/; ComponentLink2Description: Datasheet; ComponentLink2URL: http://datasheets.maximintegrated.com/en/ds/MAX5426.pdf; ComponentLink3Description: Package Specification; ComponentLink3URL: http://pdfserv.maximintegrated.com/package_dwgs/21-0066.PDF
footprint MAXM-U14+1_N (SOP, 14-Leads, Body 5x4.4mm, Pitch 0.65mm, IPC Medium Density)
footprint MAXM-U14+1_L (SOP, 14-Leads, Body 5x4.4mm, Pitch 0.65mm, IPC High Density)
footprint MAXM-U14+1_M (SOP, 14-Leads, Body 5x4.4mm, Pitch 0.65mm, IPC Low Density)
pins: 1 VDD (power) "Positive Power Supply. Bypass VDD to GND with a 0.1µF capacitor.", 2 GND (power) "Ground", 3 VSS (power) "Negative Power Supply. Bypass VSS to GND with a 0.1µF capacitor.", 4 FB2 "First Stage Positive Input Terminal Resistor. Connect to the inverting terminal of the second input buffer.", 5 OUT2 (out) "First Stage Positive Output Terminal Resistor. Connect to the output terminal of the second input buffer.", 6 OFFSET "Second Stage Offset Terminal. Connect to a DC voltage to offset the output of the differential amplifier.", 7 INDIF- "Second Stage Negative Input Terminal Resistor. Connect to the inverting input terminal of the differential op amp.", 8 INDIF+ "Second Stage Positive Input Terminal Resistor. Connect to the noninverting input terminal of the differential op amp.", 9 OUT (out) "Second Stage Output Terminal, Final Output Termina", 10 OUT1 (out) "First Stage Negative Output Terminal of Resistor. Connect to the output terminal of the first input buffer.", 11 FB1 "First Stage Negative Input Terminal of Resistor. Connect to the inverting input terminal of the first input buffer.", 12 CM (in) "Common-Mode Voltage. CM is the input common-mode voltage of the instrumentation amplifier. Typically varies +/-1% of input common-mode voltage.", 13 D0 (in) "Digital Inputs", 14 D1 (in) "Digital Inputs"

## MAX5426CEUD-T
designator U?
Digitally Programmable Resistor Network for Instrumentation Amplifiers with 2-Wire Parallel Control Interface, Volatile, 4 Steps, -40 to 85 degC, 14-pin TSSOP (U14-1), Tape and Reel; PartNumber: MAX5426CEUD-T; DatasheetVersion: Rev. 0; PackageVersion: Rev. L, 07/2010; PackageReference: U14-1; PackageDescription: 14-Pin Thin Shrink Small-Outline Package (U14-1), Body 5 x 4.4 mm, Pitch 0.65 mm; Supplier 1: Mouser; Supplier Part Number 1: N/A; Applications: Precision Voltage Divider; Control Interface: 2-Wire Parallel; Mounting Technology: Surface Mount; Code_JEDEC: MO-153; ComponentLink1Description: Manufacturer URL; ComponentLink1URL: http://www.maximintegrated.com/; ComponentLink2Description: Datasheet; ComponentLink2URL: http://datasheets.maximintegrated.com/en/ds/MAX5426.pdf; ComponentLink3Description: Package Specification; ComponentLink3URL: http://pdfserv.maximintegrated.com/package_dwgs/21-0066.PDF
footprint MAXM-U14-1_N (SOP, 14-Leads, Body 5x4.4mm, Pitch 0.65mm, IPC Medium Density)
footprint MAXM-U14-1_L (SOP, 14-Leads, Body 5x4.4mm, Pitch 0.65mm, IPC High Density)
footprint MAXM-U14-1_M (SOP, 14-Leads, Body 5x4.4mm, Pitch 0.65mm, IPC Low Density)
pins: 1 VDD (power) "Positive Power Supply. Bypass VDD to GND with a 0.1µF capacitor.", 2 GND (power) "Ground", 3 VSS (power) "Negative Power Supply. Bypass VSS to GND with a 0.1µF capacitor.", 4 FB2 "First Stage Positive Input Terminal Resistor. Connect to the inverting terminal of the second input buffer.", 5 OUT2 (out) "First Stage Positive Output Terminal Resistor. Connect to the output terminal of the second input buffer.", 6 OFFSET "Second Stage Offset Terminal. Connect to a DC voltage to offset the output of the differential amplifier.", 7 INDIF- "Second Stage Negative Input Terminal Resistor. Connect to the inverting input terminal of the differential op amp.", 8 INDIF+ "Second Stage Positive Input Terminal Resistor. Connect to the noninverting input terminal of the differential op amp.", 9 OUT (out) "Second Stage Output Terminal, Final Output Termina", 10 OUT1 (out) "First Stage Negative Output Terminal of Resistor. Connect to the output terminal of the first input buffer.", 11 FB1 "First Stage Negative Input Terminal of Resistor. Connect to the inverting input terminal of the first input buffer.", 12 CM (in) "Common-Mode Voltage. CM is the input common-mode voltage of the instrumentation amplifier. Typically varies +/-1% of input common-mode voltage.", 13 D0 (in) "Digital Inputs", 14 D1 (in) "Digital Inputs"

## MAX5427ETA+
designator U?
100k Digital Potentiometer with Up/Down Control Interface, Non-Volatile OTP, Linear Taper, 32 Steps, -40 to 85 degC, 8-pin TDFN-EP (T833+2), Pb-Free; PartNumber: MAX5427ETA+; DatasheetVersion: Rev. 2; PackageVersion: Rev. J, 08/2009; PackageReference: T833+2; PackageDescription: 8-Pin Plastic Very Very Thin Dual Flatpack No Leads, Exposed Pad (T833+2); Supplier 1: Mouser; Supplier Part Number 1: N/A; Control Interface: Up/Down; Features: One Time Programmable; Mounting Technology: Surface Mount; Code_JEDEC: MO229; ComponentLink1Description: Manufacturer URL; ComponentLink1URL: http://www.maximintegrated.com/; ComponentLink2Description: Datasheet; ComponentLink2URL: http://datasheets.maximintegrated.com/en/ds/MAX5427-MAX5429.pdf; ComponentLink3Description: Package Specification; ComponentLink3URL: http://pdfserv.maximintegrated.com/package_dwgs/21-0137.PDF
footprint MAXM-T833+2_V (SON, 8-Leads, Body 3x3 mm, Pitch 0.65mm, Thermal Pad 2.3x1.5mm)
pins: 1 W "Wiper Connection", 2 ~{CS} (in) "Chip-Select Input. A high-to-low C\S\ transition determines the mode: increment if U/D\ is high, or decrement if U/D\ is low. C\S\ is also used for one-time programming (see the One-Time Programming section).", 3 VDD (power) "Power-Supply Voltage", 4 GND (power) "Ground", 5 VPP "Programming Voltage for One-Time Programming. Connect VPP to 10V supply when one-time programming the device. For normal operation, connect to ground or let float.", 6 U/~{D} (in) "Up/D\o\w\n\ Control Input. With C\S\ low, a low-to-high transition increments or decrements the wiper position.", 7 L "Low Terminal of Resistor", 8 H "High Terminal of Resistor", 9 EP (power) "Exposed paddle"

## MAX5427ETA+T
designator U?
100k Digital Potentiometer with Up/Down Control Interface, Non-Volatile OTP, Linear Taper, 32 Steps, -40 to 85 degC, 8-pin TDFN-EP (T833+2), Pb-Free, Tape and Reel; PartNumber: MAX5427ETA+T; DatasheetVersion: Rev. 2; PackageVersion: Rev. J, 08/2009; PackageReference: T833+2; PackageDescription: 8-Pin Plastic Very Very Thin Dual Flatpack No Leads, Exposed Pad (T833+2); Supplier 1: Digi-Key; Supplier Part Number 1: MAX5427ETA+T-ND; Supplier 2: Mouser; Supplier Part Number 2: 700-MAX5427ETAT; Control Interface: Up/Down; Features: One Time Programmable; Mounting Technology: Surface Mount; Code_JEDEC: MO229; ComponentLink1Description: Manufacturer URL; ComponentLink1URL: http://www.maximintegrated.com/; ComponentLink2Description: Datasheet; ComponentLink2URL: http://datasheets.maximintegrated.com/en/ds/MAX5427-MAX5429.pdf; ComponentLink3Description: Package Specification; ComponentLink3URL: http://pdfserv.maximintegrated.com/package_dwgs/21-0137.PDF
footprint MAXM-T833+2_V (SON, 8-Leads, Body 3x3 mm, Pitch 0.65mm, Thermal Pad 2.3x1.5mm)
pins: 1 W "Wiper Connection", 2 ~{CS} (in) "Chip-Select Input. A high-to-low C\S\ transition determines the mode: increment if U/D\ is high, or decrement if U/D\ is low. C\S\ is also used for one-time programming (see the One-Time Programming section).", 3 VDD (power) "Power-Supply Voltage", 4 GND (power) "Ground", 5 VPP "Programming Voltage for One-Time Programming. Connect VPP to 10V supply when one-time programming the device. For normal operation, connect to ground or let float.", 6 U/~{D} (in) "Up/D\o\w\n\ Control Input. With C\S\ low, a low-to-high transition increments or decrements the wiper position.", 7 L "Low Terminal of Resistor", 8 H "High Terminal of Resistor", 9 EP (power) "Exposed paddle"

## MAX5427ETA-T
designator U?
100k Digital Potentiometer with Up/Down Control Interface, Non-Volatile OTP, Linear Taper, 32 Steps, -40 to 85 degC, 8-pin TDFN-EP (T833-2), Tape and Reel; PartNumber: MAX5427ETA-T; DatasheetVersion: Rev. 2; PackageVersion: Rev. J, 08/2009; PackageReference: T833-2; PackageDescription: 8-Pin Plastic Very Very Thin Dual Flatpack No Leads, Exposed Pad, Body 3 x 3 mm, Pitch 0.65 mm; Supplier 1: Mouser; Supplier Part Number 1: N/A; Control Interface: Up/Down; Features: One Time Programmable; Mounting Technology: Surface Mount; Code_JEDEC: MO229; ComponentLink1Description: Manufacturer URL; ComponentLink1URL: http://www.maximintegrated.com/; ComponentLink2Description: Datasheet; ComponentLink2URL: http://datasheets.maximintegrated.com/en/ds/MAX5427-MAX5429.pdf; ComponentLink3Description: Package Specification; ComponentLink3URL: http://pdfserv.maximintegrated.com/package_dwgs/21-0137.PDF
footprint MAXM-T833-2_V (SON, 8-Leads, Body 3x3mm, Pitch 0.65mm, Thermal Pad 2.3x1.5mm, Recommended)
pins: 1 W "Wiper Connection", 2 ~{CS} (in) "Chip-Select Input. A high-to-low C\S\ transition determines the mode: increment if U/D\ is high, or decrement if U/D\ is low. C\S\ is also used for one-time programming (see the One-Time Programming section).", 3 VDD (power) "Power-Supply Voltage", 4 GND (power) "Ground", 5 VPP "Programming Voltage for One-Time Programming. Connect VPP to 10V supply when one-time programming the device. For normal operation, connect to ground or let float.", 6 U/~{D} (in) "Up/D\o\w\n\ Control Input. With C\S\ low, a low-to-high transition increments or decrements the wiper position.", 7 L "Low Terminal of Resistor", 8 H "High Terminal of Resistor", 9 EP (power) "Exposed paddle"